# EAGLE library part DF11-12DP-2DS (library customics)
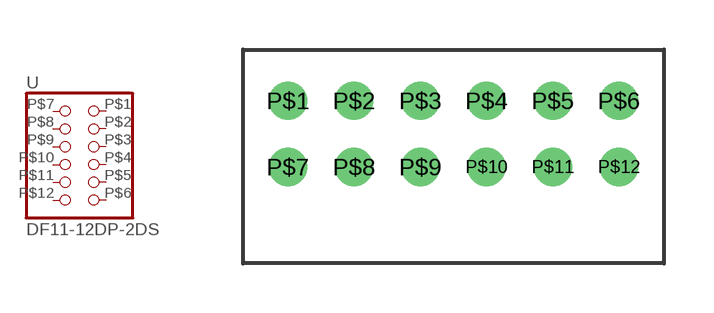
[diagram p10: symbol with the pads of DF11-12DP-2DS; footprint DF11-12DP-2DS]

Designator prefix -

## DF11-12DP-2DS  [DF11-12DP-2DS]
P$1  1  pas
P$2  2  pas
P$3  3  pas
P$4  4  pas
P$5  5  pas
P$6  6  pas
P$7  7  pas
P$8  8  pas
P$9  9  pas
P$10  10  pas
P$11  11  pas
P$12  12  pas

## Footprint DF11-12DP-2DS (pad centres in mm)
drill 0.65: P$1 -5,1; P$2 -3,1; P$3 -1,1; P$4 1,1; P$5 3,1; P$6 5,1; P$7 -5,-1; P$8 -3,-1; P$9 -1,-1; P$10 1,-1; P$11 3,-1; P$12 5,-1